# Altium schematic symbol library LED(RED, 2V, 20mA, SMD-0603).SchLib: 1 symbol
Pins are listed as number, name and electrical type; pins without a type are passive.

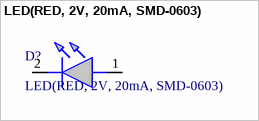
[diagram p0: symbol LED(RED, 2V, 20mA, SMD-0603)]

## LED(RED, 2V, 20mA, SMD-0603)
designator D?
Manufacturer: Würth Elektronik; Manufacturer_PN: 150060RS75003; Datasheet: https://www.we-online.com/components/products/datasheet/150060RS75003.pdf; Digikey_Link: https://www.digikey.com/en/products/detail/w%C3%BCrth-elektronik/150060RS75003/16022171
footprint LED_GREEN(2V, 20mA, SMD-0603)
pins: 1 A, 2 K